# Altium footprint library CMod5_1.PcbLib: 117 footprints (part 4 of 8)
Each footprint in its own frame and in the unit in brackets; x right, y up, seen from the top. Pads: shape width x height; smd on the part's side, far side on the other; paste and mask are expansions set on the pad; w line width, h text height; cw(c..) or ccw(c..) is an arc to the next point about the centre after c.
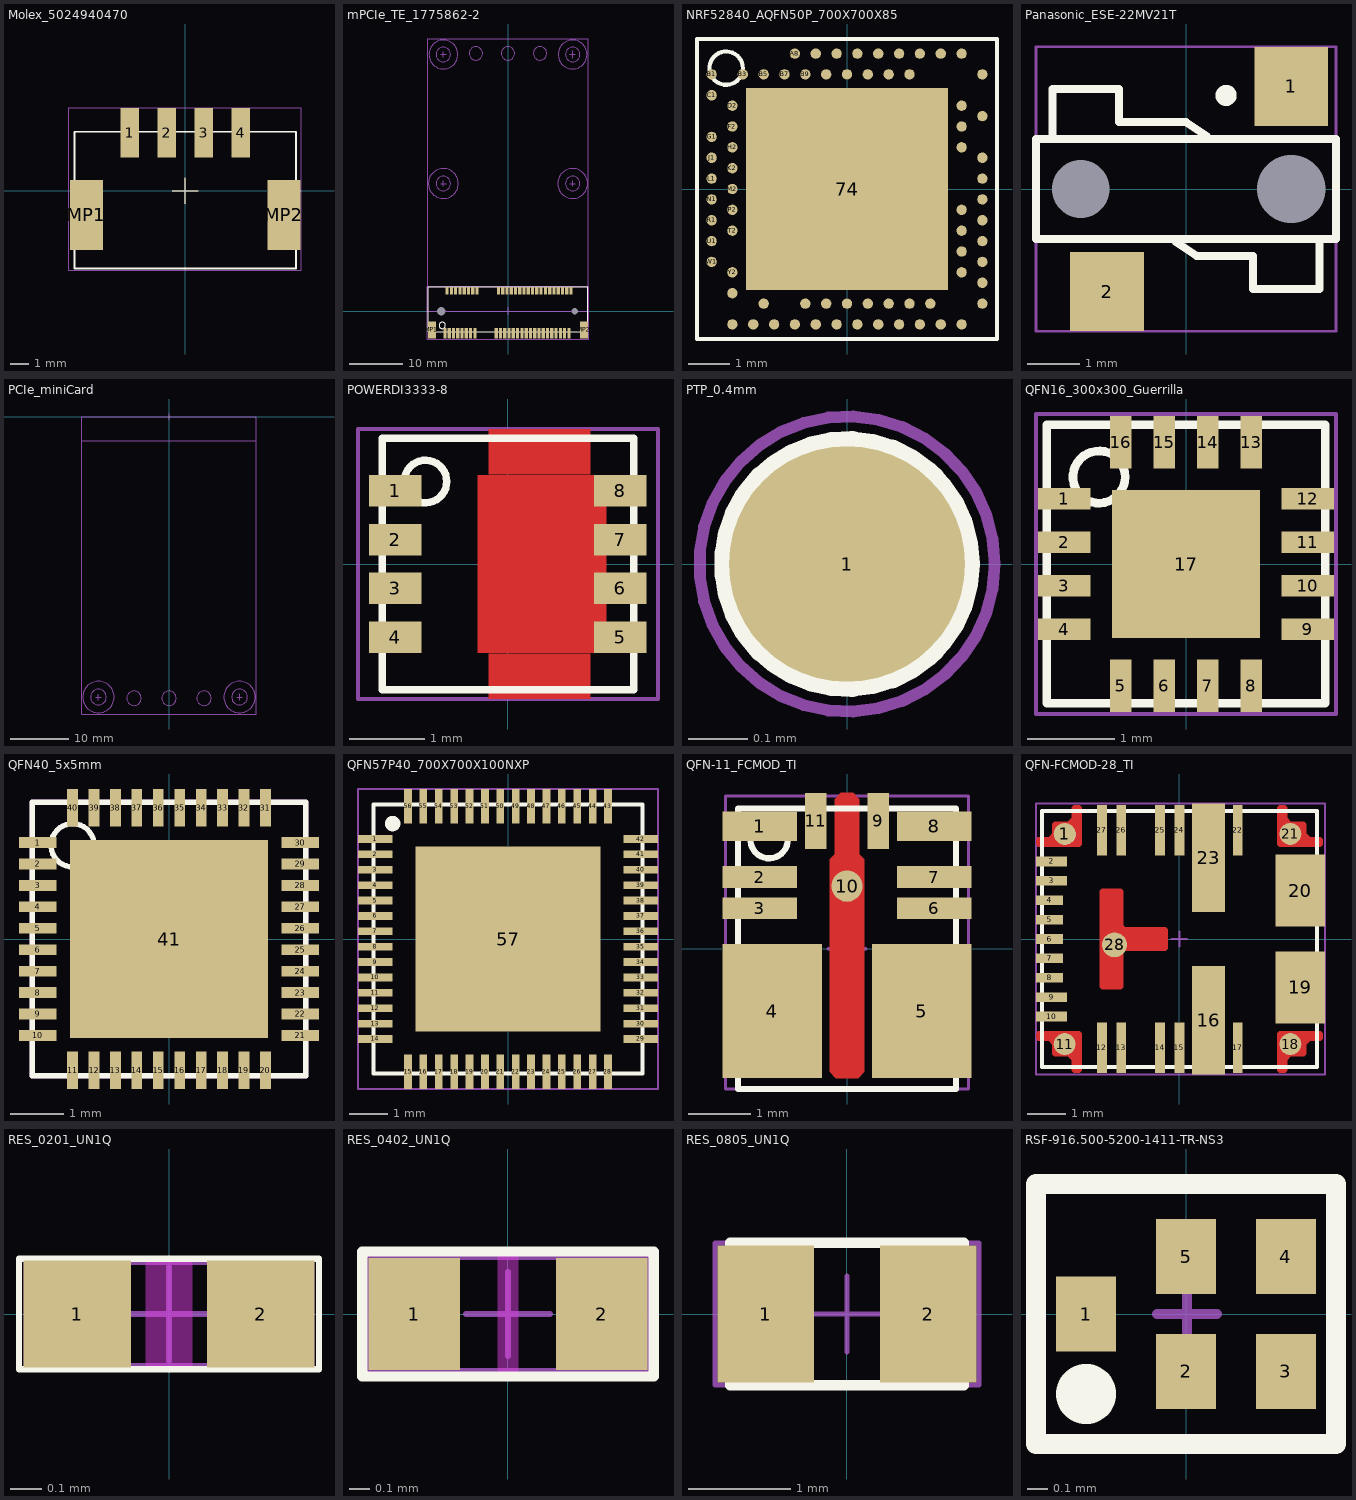
[diagram p3: the footprints below, top view; thin cyan lines are the x and y axes]

## Molex_5024940470 [mm] "PCB Header, 4 Pins, 2.00mm Pitch RA"
height 7.45
pads (6):
  rect 1x2.7 smd: 1(-3,3.15) 2(-1,3.15) 3(1,3.15) 4(3,3.15)
  rect 1.8x3.8 smd: MP1(-5.35,-1.3) MP2(5.35,-1.3)
Top Overlay:
  circle w0.4: c-3,2.5 r0.2
  lines w0.05: -0.7,0 0.7,0 ; 0,-0.7 0,0.7
  lines w0.1: -6,-4.2 6,-4.2 6,3.2 -6,3.2 -6,-4.2
Top Courtyard:
  lines w0.05: -6.3,-4.3 6.3,-4.3 6.3,4.5 -6.3,4.5 -6.3,-4.3
3D body "502494-0470.stp": height 6.9, standoff 0, extent -6,-4.245 6,4.255

## mPCIe_TE_1775862-2 [mm] "mPCie 5.2H Type I G/F"
height 5.2
pads (56):
  rect 0.6x2 smd paste+0 mask+0.05: 1(-11.8,-4.1) 3(-11,-4.1) 5(-10.2,-4.1) 7(-9.4,-4.1) 9(-8.6,-4.1) 11(-7.8,-4.1) 13(-7,-4.1) 15(-6.2,-4.1) 17(-2.2,-4.1) 19(-1.4,-4.1) 21(-0.6,-4.1) 23(0.2,-4.1) 25(1,-4.1) 27(1.8,-4.1) 29(2.6,-4.1) 31(3.4,-4.1) 33(4.2,-4.1) 35(5,-4.1) 37(5.8,-4.1) 39(6.6,-4.1) 41(7.4,-4.1) 43(8.2,-4.1) 45(9,-4.1) 47(9.8,-4.1) 49(10.6,-4.1) 51(11.4,-4.1)
  rect 0.6x1.4 smd paste+0 mask+0.05: 2(-11.4,3.8) 4(-10.6,3.8) 6(-9.8,3.8) 8(-9,3.8) 10(-8.2,3.8) 12(-7.4,3.8) 14(-6.6,3.8) 16(-5.8,3.8) 18(-1.8,3.8) 20(-1,3.8) 22(-0.2,3.8) 24(0.6,3.8) 26(1.4,3.8) 28(2.2,3.8) 30(3,3.8) 32(3.8,3.8) 34(4.6,3.8) 36(5.4,3.8) 38(6.2,3.8) 40(7,3.8) 42(7.8,3.8) 44(8.6,3.8) 46(9.4,3.8) 48(10.2,3.8) 50(11,3.8) 52(11.8,3.8)
  round 0 hole 1.65 unplated paste-2539.97 mask+0.1: 55(-12.5,0)
  round 0 hole 1.15 unplated paste-2539.97 mask+0.1: 56(12.5,0)
  rect 1.45x3.2 smd paste+0 mask+0.1: MP1(-14.225,-3.5) MP2(14.225,-3.5)
Top Overlay:
  circle w0.1: c-12.3,-2.65 r0.6
  lines w0.1: -14.95,-1.4 -14.95,4.6 ; -12,4.6 -14.95,4.6 ; 12.4,4.6 14.95,4.6 ; 14.95,-1.4 14.95,4.6 ; -14.95,4.6 -14.95,-3.85 14.95,-3.85 14.95,4.6 ; -14.95,4.6 14.95,4.6
Mechanical 4:
  circle w0.1: c12.1,23.9 r2.8
  circle w0.1: c-12.1,48.05 r2.7
  circle w0.1: c12.1,48.05 r2.7
  circle w0.1: c-12.1,48.05 r1.35
  circle w0.1: c12.1,48.05 r1.35
  circle w0.1: c12.1,23.9 r1.35
  circle w0.1: c-12.1,23.9 r1.35
  circle w0.1: c-12.1,23.9 r2.8
  circle w0.1: c6,48.25 r1.25
  circle w0.1: c0,48.25 r1.25
  circle w0.1: c-6,48.25 r1.25
  lines w0.05: -12.5,48.05 -12.1,48.05 ; -12.1,47.5 -12.1,48.05 ; -12.1,48.55 -12.1,48.05 ; 12.1,47.35 12.1,48.05 ; 12.1,48.75 12.1,48.05 ; 12.5,48.05 12.1,48.05 ; -15,0 -15,50.95 15,50.95 15,0 -15,0
  lines w0.1: -12.6,23.9 -11.6,23.9 ; -12.6,48.05 -11.6,48.05 ; -12.1,23.4 -12.1,24.4 ; -12.1,47.55 -12.1,48.55 ; 11.6,23.9 12.6,23.9 ; 11.6,48.05 12.6,48.05 ; 12.1,23.4 12.1,24.4 ; 12.1,47.55 12.1,48.55
Top Courtyard:
  lines w0.05: -0.7,0 0.7,0 ; 0,-0.7 0,0.7
  lines w0.1: -15.1,-5.2 -15.1,4.7 15.1,4.7 15.1,-5.2 -15.1,-5.2
Top Designator:
3D body "c-1775862-2-h-3d.stp": height 5.21, standoff -0.64, extent -14.95,-4.58 14.95,4.5

## NRF52840_AQFN50P_700X700X85 [mm] "AQFN50P 7x7 mm"
height 0.85
pads (74):
  rect 4.85x4.85 smd paste-0.6 mask+0.05: 74(0,0)
  round 0.25 smd paste+0 mask+0.05: A8(-1.25,3.25) A10(-0.75,3.25) A12(-0.25,3.25) A14(0.25,3.25) A16(0.75,3.25) A18(1.25,3.25) A20(1.75,3.25) A22(2.25,3.25) A23(2.75,3.25) AA24(3.25,-2.25) AB2(-2.75,-2.5) AC5(-2,-2.75) AC9(-1,-2.75) AC11(-0.5,-2.75) AC13(0,-2.75) AC15(0.5,-2.75) AC17(1,-2.75) AC19(1.5,-2.75) AC21(2,-2.75) AC24(3.25,-2.75) AD2(-2.75,-3.25) AD4(-2.25,-3.25) AD6(-1.75,-3.25) AD8(-1.25,-3.25) AD10(-0.75,-3.25) AD12(-0.25,-3.25) AD14(0.25,-3.25) AD16(0.75,-3.25) AD18(1.25,-3.25) AD20(1.75,-3.25) AD22(2.25,-3.25) AD23(2.75,-3.25) B1(-3.25,2.75) B3(-2.5,2.75) B5(-2,2.75) B7(-1.5,2.75) B9(-1,2.75) B11(-0.5,2.75) B13(0,2.75) B15(0.5,2.75) B17(1,2.75) B19(1.5,2.75) B24(3.25,2.75) C1(-3.25,2.25) D2(-2.75,2) D23(2.75,2) E24(3.25,1.75) F2(-2.75,1.5) F23(2.75,1.5) G1(-3.25,1.25) H2(-2.75,1) H23(2.75,1) J1(-3.25,0.75) J24(3.25,0.75) K2(-2.75,0.5) L1(-3.25,0.25) L24(3.25,0.25) M2(-2.75,0) N1(-3.25,-0.25) N24(3.25,-0.25) P2(-2.75,-0.5) P23(2.75,-0.5) R1(-3.25,-0.75) R24(3.25,-0.75) T2(-2.75,-1) T23(2.75,-1) U1(-3.25,-1.25) U24(3.25,-1.25) V23(2.75,-1.5) W1(-3.25,-1.75) W24(3.25,-1.75) Y2(-2.75,-2) Y23(2.75,-2)
Top Overlay:
  circle w0.1: c-2.9,2.9 r0.4
  lines w0.1: -3.6,-3.6 -3.6,3.6 3.6,3.6 3.6,-3.6 -3.6,-3.6
Top Courtyard:
  lines w0.05: -0.5,0 0.5,0 ; 0,-0.5 0,0.5 ; -3.6,-3.6 -3.6,3.6 3.6,3.6 3.6,-3.6 -3.6,-3.6
3D body "LGA88C25P25X25_700X700X85.step": height 0.85, standoff 0, extent -3.55,-3.55 3.55,3.55

## Panasonic_ESE-22MV21T [mm]
height 1.42
pads (4):
  rect 1.4x1.5 smd paste+0 mask+0.05: 1(2,1.95) 2(-1.5,-1.95)
  round 0 hole 1.1 unplated: H1(-2,0)
  round 0 hole 1.3 unplated mask+0.1: H2(2,0)
Top Overlay:
  circle w0.2: c0.762,1.778 r0.1
  lines w0.15: -0.2,-1 0.2,-1.27 1.27,-1.27 1.27,-1.9 2.54,-1.9 2.54,-0.95 ; 0.4,1 0,1.27 -1.27,1.27 -1.27,1.9 -2.54,1.9 -2.54,0.95 ; -2.54,0.95 2.85,0.95 2.85,-0.95 2.54,-0.95 ; -2.54,0.95 -2.85,0.95 -2.85,-0.95 2.54,-0.95
Top Courtyard:
  lines w0.05: -2.85,-2.7 -2.85,2.7 2.85,2.7 2.85,-2.7 -2.85,-2.7
3D body "step_temp.STEP": height 6.6, standoff -1, extent -2.85,-2.2 2.85,2.2

## PCIe_miniCard [mm] "PCIe_miniCard"
height 1.5
Mechanical 4:
  circle w0.1: c12.1,-48.05 r2.7
  circle w0.1: c-12.1,-48.05 r2.7
  circle w0.1: c12.1,-48.05 r1.35
  circle w0.1: c-12.1,-48.05 r1.35
  circle w0.1: c6,-48.25 r1.25
  circle w0.1: c0,-48.25 r1.25
  circle w0.1: c-6,-48.25 r1.25
  lines w0.05: -12.5,-48.05 -12.1,-48.05 ; 12.1,-48.55 12.1,-48.05 ; 12.1,-47.5 12.1,-48.05 ; 12.5,-48.05 12.1,-48.05
  lines w0.1: -15,-4.1 15,-4.1 ; -12.6,-48.05 -11.6,-48.05 ; -12.1,-48.55 -12.1,-47.55 ; 0,-0.5 0,0.5 ; 11.6,-48.05 12.6,-48.05 ; 12.1,-48.55 12.1,-47.55 ; -15,-50.95 -15,0 15,0 15,-50.95 -15,-50.95
3D body "NM-DB-3U.STEP": height 5, standoff 0.25, extent -15,-50.948 15,0.002

## POWERDI3333-8 [mm] "POWER(R)DI3333-8 (Diodes Inc)"
height 0.85
pads (8):
  rect 0.7x0.42 smd paste+0 mask+0.05: 1(-1.5,0.975) 2(-1.5,0.325) 3(-1.5,-0.325) 4(-1.5,-0.975) 5(1.5,-0.975) 6(1.5,-0.325) 7(1.5,0.325) 8(1.5,0.975)
Top Layer:
  pour cut-out: -0.255,-1.8 1.095,-1.8 1.095,-1.2 -0.255,-1.2
  pour cut-out: -0.255,1.2 1.095,1.2 1.095,1.8 -0.255,1.8
  region: 1.31,1.185 1.31,-1.185 -0.4,-1.185 -0.4,1.185
Top Overlay:
  circle w0.1: c-1.1,1.1 r0.283
  lines w0.1: -1.675,-1.675 1.675,-1.675 1.675,1.675 -1.675,1.675 -1.675,-1.675
Top Courtyard:
  lines w0.05: -0.25,0 0,0 ; 0,-0.25 0,0 ; 0,0.25 0,0 ; 0.25,0 0,0 ; -2,-1.8 2,-1.8 2,1.8 -2,1.8 -2,-1.8
Top Designator:
3D body "DMN3024SFG-7--3DModel-STEP-510211.STEP": height 0.9, standoff 0, extent -1.65,-1.65 1.65,1.65

## PTP_0.4mm [mm] "ProductionTest Point, Circular, 0.4mm. Flying probe. Use 1mm pitch."
height 0.03
pads (1):
  round 0.4 smd paste-0.5 mask+0.05: 1(0,0)
Top Overlay:
  circle w0.05: c0,0 r0.2
  lines w0.05: -0.141,-0.141 0.141,0.141 ; -0.141,0.141 0.141,-0.141
Top Courtyard:
  circle w0.02: c0,0 r0.25
3D body: height 0.01, standoff 0, extent -0.204,-0.187 0.196,0.213

## QFN16_300x300_Guerrilla [mm] "QFN16 Guerrilla RF"
height 0.9
pads (17):
  rect 0.6x0.25 smd mask+0.05: 1(-1.4,0.75) 2(-1.4,0.25) 3(-1.4,-0.25) 4(-1.4,-0.75) 9(1.4,-0.75) 10(1.4,-0.25) 11(1.4,0.25) 12(1.4,0.75)
  rect 0.25x0.6 smd mask+0.05: 5(-0.75,-1.4) 6(-0.25,-1.4) 7(0.25,-1.4) 8(0.75,-1.4) 13(0.75,1.4) 14(0.25,1.4) 15(-0.25,1.4) 16(-0.75,1.4)
  rect 1.7x1.7 smd paste-0.2 mask+0.05: 17(0,0)
Top Overlay:
  circle w0.1: c-1,1 r0.3
  lines w0.1: -1.6,-1.6 1.6,-1.6 1.6,1.6 -1.6,1.6 -1.6,-1.6
Top Courtyard:
  lines w0.05: -0.3,0 0.3,0 ; 0,-0.3 0,0.3 ; -1.725,-1.725 1.725,-1.725 1.725,1.725 -1.725,1.725 -1.725,-1.725
3D body: height 0.92, standoff 0.7, extent -1.2,0.8 -0.8,1.2
3D body: height 0.9, standoff 0, extent -1.55,-1.55 1.55,1.55

## QFN40_5x5mm [mm] "MP6536"
height 1
pads (41):
  rect 0.7x0.2 smd paste+0 mask+0.05: 1(-2.45,1.8) 2(-2.45,1.4) 3(-2.45,1) 4(-2.45,0.6) 5(-2.45,0.2) 6(-2.45,-0.2) 7(-2.45,-0.6) 8(-2.45,-1) 9(-2.45,-1.4) 10(-2.45,-1.8) 21(2.45,-1.8) 22(2.45,-1.4) 23(2.45,-1) 24(2.45,-0.6) 25(2.45,-0.2) 26(2.45,0.2) 27(2.45,0.6) 28(2.45,1) 29(2.45,1.4) 30(2.45,1.8)
  rect 0.2x0.7 smd paste+0 mask+0.05: 11(-1.8,-2.45) 12(-1.4,-2.45) 13(-1,-2.45) 14(-0.6,-2.45) 15(-0.2,-2.45) 16(0.2,-2.45) 17(0.6,-2.45) 18(1,-2.45) 19(1.4,-2.45) 20(1.8,-2.45) 31(1.8,2.45) 32(1.4,2.45) 33(1,2.45) 34(0.6,2.45) 35(0.2,2.45) 36(-0.2,2.45) 37(-0.6,2.45) 38(-1,2.45) 39(-1.4,2.45) 40(-1.8,2.45)
  rect 3.7x3.7 smd paste-2 mask+0.05: 41(0,0)
Top Overlay:
  circle w0.1: c-1.8,1.75 r0.403
  lines w0.1: -2.55,-2.55 -2.55,2.55 2.55,2.55 2.55,-2.55 -2.55,-2.55
Top Paste:
  rectangle: -1.7,0.1 -0.1,1.7
  rectangle: -1.7,-1.7 -0.1,-0.1
  rectangle: 0.1,-1.7 1.7,-0.1
  rectangle: 0.1,0.1 1.7,1.7
Top Courtyard:
  lines w0.1: -0.5,0 0.5,0 ; 0,-0.5 0,0.5 ; -2.55,-2.55 -2.55,2.55 2.55,2.55 2.55,-2.55 -2.55,-2.55
3D body: height 1, standoff 0, extent -2.55,-2.55 2.55,2.55

## QFN57P40_700X700X100NXP [mm] "QFN56 + pad NXP"
height 1
pads (57):
  rect 0.9x0.2 smd paste+0 mask+0.05: 1(-3.45,2.6) 2(-3.45,2.2) 3(-3.45,1.8) 4(-3.45,1.4) 5(-3.45,1) 6(-3.45,0.6) 7(-3.45,0.2) 8(-3.45,-0.2) 9(-3.45,-0.6) 10(-3.45,-1) 11(-3.45,-1.4) 12(-3.45,-1.8) 13(-3.45,-2.2) 14(-3.45,-2.6) 29(3.45,-2.6) 30(3.45,-2.2) 31(3.45,-1.8) 32(3.45,-1.4) 33(3.45,-1) 34(3.45,-0.6) 35(3.45,-0.2) 36(3.45,0.2) 37(3.45,0.6) 38(3.45,1) 39(3.45,1.4) 40(3.45,1.8) 41(3.45,2.2) 42(3.45,2.6)
  rect 0.2x0.9 smd paste+0 mask+0.05: 15(-2.6,-3.45) 16(-2.2,-3.45) 17(-1.8,-3.45) 18(-1.4,-3.45) 19(-1,-3.45) 20(-0.6,-3.45) 21(-0.2,-3.45) 22(0.2,-3.45) 23(0.6,-3.45) 24(1,-3.45) 25(1.4,-3.45) 26(1.8,-3.45) 27(2.2,-3.45) 28(2.6,-3.45) 43(2.6,3.45) 44(2.2,3.45) 45(1.8,3.45) 46(1.4,3.45) 47(1,3.45) 48(0.6,3.45) 49(0.2,3.45) 50(-0.2,3.45) 51(-0.6,3.45) 52(-1,3.45) 53(-1.4,3.45) 54(-1.8,3.45) 55(-2.2,3.45) 56(-2.6,3.45)
  rect 4.8x4.8 smd paste-3 mask+0.05: 57(0,0)
Top Overlay:
  circle w0.2: c-3,3 r0.1
  lines w0.1: -3.5,-3.5 3.5,-3.5 3.5,3.5 -3.5,3.5 -3.5,-3.5
Top Paste:
  region: 2.1,-2.1 0.9,-2.1 0.9,-0.9 2.1,-0.9
  region: -0.9,-2.1 -2.1,-2.1 -2.1,-0.9 -0.9,-0.9
  region: 0.6,-2.1 -0.6,-2.1 -0.6,-0.9 0.6,-0.9
  region: 2.1,0.9 0.9,0.9 0.9,2.1 2.1,2.1
  region: -0.9,0.9 -2.1,0.9 -2.1,2.1 -0.9,2.1
  region: 0.6,0.9 -0.6,0.9 -0.6,2.1 0.6,2.1
  region: 2.1,-0.6 0.9,-0.6 0.9,0.6 2.1,0.6
  region: -0.9,-0.6 -2.1,-0.6 -2.1,0.6 -0.9,0.6
  region: 0.6,-0.6 -0.6,-0.6 -0.6,0.6 0.6,0.6
Top Courtyard:
  lines w0.05: -3.9,-3.9 3.9,-3.9 3.9,3.9 -3.9,3.9 -3.9,-3.9
3D body "PCA9450CHNY.STEP": height 1, standoff 0, extent -3.5,-3.5 3.5,3.5

## QFN-11_FCMOD_TI [mm] "QFN-FCMOD 11"
height 2.1
pads (11):
  rect 1.2x0.475 smd paste-0.587 mask-0.584: 1(-1.4,1.962) 8(1.4,1.962)
  rect 1.2x0.35 smd paste-0.587 mask-0.584: 2(-1.4,1.15) 3(-1.4,0.65) 6(1.4,0.65) 7(1.4,1.15)
  rect 1.6x2.15 smd paste-1.062 mask-1.067: 4(-1.2,-1) 5(1.2,-1)
  rect 0.35x0.9 smd paste-0.437 mask-0.432: 9(0.5,2.05) 11(-0.5,2.05)
  round 0.504 smd paste-0.239 mask-0.241: 10(0,1.005)
Top Layer:
  region: -0.2,1.515 -0.2,2.4 -0.1,2.5 0.1,2.5 0.2,2.4 0.2,1.515 0.24,1.475 0.28,1.435 0.28,-1.975 0.18,-2.075 -0.18,-2.075 -0.28,-1.975 -0.28,1.435 -0.24,1.475
Top Overlay:
  circle w0.1: c-1.25,1.75 r0.3
  lines w0.1: -1.75,-2.25 1.75,-2.25 1.75,2.25 -1.75,2.25 -1.75,-2.25
Top Paste:
  drawing of 23 lines, arcs and shapes, not listed
Top Solder:
  drawing of 11 lines, arcs and shapes, not listed
Top Courtyard:
  lines w0.05: -0.3,0 0.3,0 ; 0,-0.3 0,0.3 ; -1.95,-2.25 -1.95,2.45 1.95,2.45 1.95,-2.25 -1.95,-2.25
Top Designator:
3D body "TPSM365R6RDNR.STEP": height 2.15, standoff 0.05, extent -1.75,-2.25 1.75,2.25

## QFN-FCMOD-28_TI [mm] "QFN-FCMOD-28 package from Texas Instruments"
height 2.1
pads (28):
  round 0.565 smd paste-0.27 mask+0: 1(-2.961,2.711) 11(-2.961,-2.711) 18(2.861,-2.711) 21(2.861,2.711)
  rect 0.8x0.25 smd paste+0 mask+0: 2(-3.3,2) 3(-3.3,1.5) 9(-3.3,-1.5) 10(-3.3,-2)
  rect 0.7x0.25 smd paste+0 mask+0: 4(-3.35,1) 5(-3.35,0.5) 6(-3.35,0) 7(-3.35,-0.5) 8(-3.35,-1)
  rect 0.25x1.3 smd paste+0 mask+0: 12(-2,-2.8) 13(-1.5,-2.8) 14(-0.5,-2.8) 15(0,-2.8) 17(1.5,-2.8) 22(1.5,2.8) 24(0,2.8) 25(-0.5,2.8) 26(-1.5,2.8) 27(-2,2.8)
  rect 0.85x2.8 smd paste-1.387 mask-1.384: 16(0.75,-2.1) 23(0.75,2.1)
  rect 1.275x1.85 smd paste-0.912 mask-0.914: 19(3.113,-1.25) 20(3.113,1.25)
  round 0.644 smd paste-0.309 mask+0: 28(-1.675,-0.15)
Top Layer:
  region: -2.05,-1.25 -2.05,1.25 -2,1.3 -1.5,1.3 -1.45,1.25 -1.45,0.35 -1.4,0.3 -0.35,0.3 -0.3,0.25 -0.3,-0.25 -0.35,-0.3 -1.4,-0.3 -1.45,-0.35 -1.45,-1.25 -1.5,-1.3 -2,-1.3
  region: 2.575,2.375 3.65,2.375 3.7,2.425 3.7,2.575 3.65,2.625 3.375,2.625 3.275,2.725 3.275,2.975 3.225,3.025 2.875,3.025 2.775,3.125 2.775,3.4 2.725,3.45 2.575,3.45 2.525,3.4 2.525,2.425
  region: 2.575,-2.375 3.65,-2.375 3.7,-2.425 3.7,-2.575 3.65,-2.625 3.375,-2.625 3.275,-2.725 3.275,-2.975 3.225,-3.025 2.875,-3.025 2.775,-3.125 2.775,-3.4 2.725,-3.45 2.575,-3.45 2.525,-3.4 2.525,-2.425
  region: -2.575,-2.375 -3.65,-2.375 -3.7,-2.425 -3.7,-2.575 -3.65,-2.625 -3.375,-2.625 -3.275,-2.725 -3.275,-2.975 -3.225,-3.025 -2.875,-3.025 -2.775,-3.125 -2.775,-3.4 -2.725,-3.45 -2.575,-3.45 -2.525,-3.4 -2.525,-2.425
  region: -2.575,2.375 -3.65,2.375 -3.7,2.425 -3.7,2.575 -3.65,2.625 -3.375,2.625 -3.275,2.725 -3.275,2.975 -3.225,3.025 -2.875,3.025 -2.775,3.125 -2.775,3.4 -2.725,3.45 -2.575,3.45 -2.525,3.4 -2.525,2.425
Top Overlay:
  circle w0.25: c-2.925,2.7 r0.125
  lines w0.1: -3.55,-3.3 3.55,-3.3 3.55,3.3 -3.55,3.3 -3.55,-3.3
Top Paste:
  drawing of 21 lines, arcs and shapes, not listed
Top Solder:
  drawing of 8 lines, arcs and shapes, not listed
Top Courtyard:
  lines w0.05: -0.2,0 0.2,0 ; 0,-0.2 0,0.2 ; -3.7,-3.5 -3.7,3.5 3.75,3.5 3.75,-3.5 -3.7,-3.5
Top Designator:
3D body "TPSM64406RCHR.stp": height 1.95, standoff -0.05, extent -3.55,-3.3 3.55,3.296
3D body: height 1.94, standoff 1.84, extent -3.205,2.42 -2.645,2.98

## RES_0201_UN1Q [mm] "Chip Resistor, 0.6x0.3mm"
height 0.3
pads (2):
  rect 0.34x0.34 smd mask+0.05: 1(-0.29,0) 2(0.29,0)
Top Layer keep-out:
  rectangle: -0.075,-0.165 0.075,0.165
Top Overlay:
  lines w0.02: -0.475,-0.175 -0.475,0.175 0.475,0.175 0.475,-0.175 -0.475,-0.175
Top Courtyard:
  lines w0.02: -0.15,0 0.15,0 ; 0,-0.15 0,0.15 ; -0.45,-0.165 -0.45,0.165 0.45,0.165 0.45,-0.165 -0.45,-0.165
Top Designator:
3D body "RC0201JR-071KL.STEP": height 0.26, standoff 0, extent -0.3,-0.15 0.3,0.15

## RES_0402_UN1Q [mm] "Chip Resistor, 1.0x0.5mm"
height 0.4
pads (2):
  rect 0.44x0.54 smd paste+0 mask+0.05: 1(-0.45,0) 2(0.45,0)
Top Layer keep-out:
  rectangle: -0.05,-0.3 0.05,0.3
Top Overlay:
  lines w0.05: -0.7,-0.3 0.7,-0.3 0.7,0.3 -0.7,0.3 -0.7,-0.3
Top Courtyard:
  lines w0.03: -0.2,0 0.2,0 ; 0,-0.2 0,0.2 ; -0.675,-0.275 -0.675,0.275 0.675,0.275 0.675,-0.275 -0.675,-0.275
Top Designator:
3D body "RC0402JR-07100RL.STEP": height 0.4, standoff 0, extent -0.5,-0.25 0.5,0.25

## RES_0805_UN1Q [mm] "Resistor 0805"
height 0.6
pads (2):
  rect 0.95x1.35 smd paste+0 mask+0.06: 1(-0.8,0) 2(0.8,0)
Top Overlay:
  lines w0.1: -1.15,-0.7 1.15,-0.7 1.15,0.7 -1.15,0.7 -1.15,-0.7
Top Courtyard:
  lines w0.05: -0.375,0 0.375,0 ; 0,-0.375 0,0.375 ; -1.3,-0.7 -1.3,0.7 1.3,0.7 1.3,-0.7 -1.3,-0.7
3D body: height 0.7, standoff 0, extent -1.1,-0.675 1.1,0.675

## RSF-916.500-5200-1411-TR-NS3 [mm] "RSF-916.500-5200-1411-TR-NS3"
height 0.5
pads (5):
  rect 0.3x0.375 smd paste+0 mask+0.05: 1(-0.5,0) 2(0,-0.288) 3(0.5,-0.288) 4(0.5,0.288) 5(0,0.288)
Top Overlay:
  circle w0.2: c-0.5,-0.4 r0.05
  lines w0.1: -0.75,-0.65 0.75,-0.65 0.75,0.65 -0.75,0.65 -0.75,-0.65
Top Courtyard:
  lines w0.05: -0.146,0 0.154,0 ; 0.004,-0.15 0.004,0.15 ; -0.75,-0.65 0.75,-0.65 0.75,0.65 -0.75,0.65 -0.75,-0.65
Top Designator:
3D body: height 0.61, standoff 0.55, extent -0.555,-0.48 -0.295,-0.22
3D body: height 0.6, standoff 0, extent -0.7,-0.6 0.7,0.6